# EAGLE library part LM5165X (library ICs)
3-V to 65-V Input, 150-mA Synchronous Buck Converter with Ultra-Low IQ
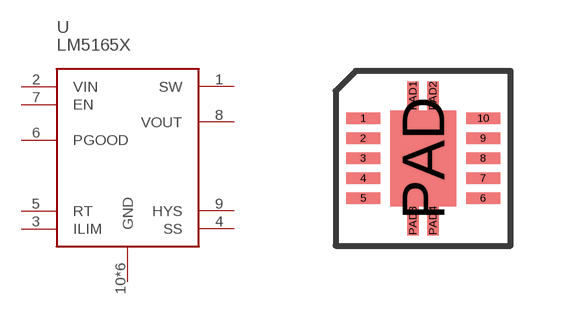
[diagram p131: symbol with the pads of PVSON; footprint PVSON]

Designator prefix U

## LM5165X (DIGIKEY: 296-44068-1-ND; PRICE_PER: 2.97; VALUE: LM5165X)  [PVSON]
1  SW
2  VIN
3  ILIM
4  SS
5  RT
6  PGOOD
7  EN
8  VOUT
9  HYS
10  GND
PAD  GND
PAD1  GND
PAD2  GND
PAD3  GND
PAD4  GND

## Footprint PVSON (pad centres in mm)
smd 0.85 x 0.28: 1 -1.5,1; 2 -1.5,0.5; 3 -1.5,0; 4 -1.5,-0.5; 5 -1.5,-1; 6 1.5,-1; 7 1.5,-0.5; 8 1.5,0; 9 1.5,0.5; 10 1.5,1
smd 1.65 x 2.4: PAD 0,0
smd 0.28 x 0.725: PAD1 -0.25,1.562; PAD2 0.25,1.562; PAD3 -0.25,-1.562; PAD4 0.25,-1.562